# Altium footprint library MinesROV.PcbLib: 44 footprints (part 2 of 3)
Each footprint in its own frame and in the unit in brackets; x right, y up, seen from the top. Pads: shape width x height; smd on the part's side, far side on the other; paste and mask are expansions set on the pad; w line width, h text height; cw(c..) or ccw(c..) is an arc to the next point about the centre after c.
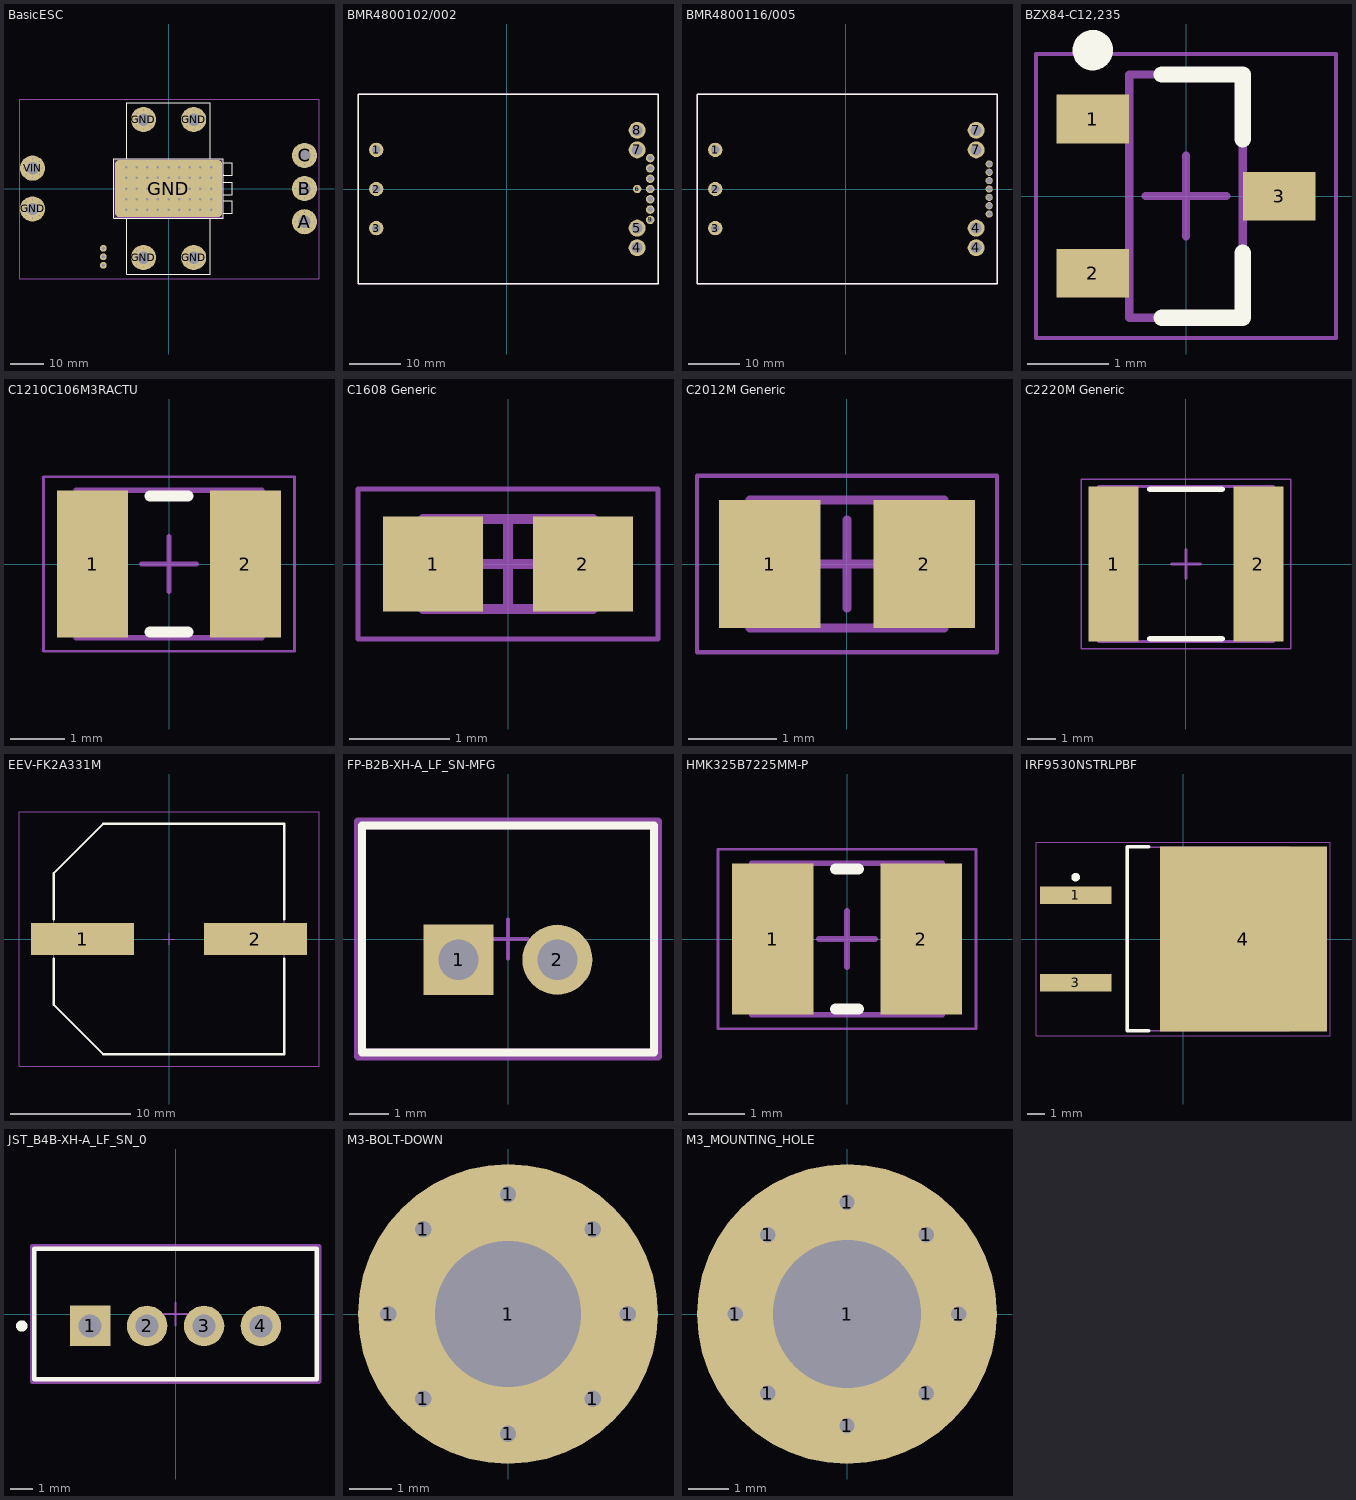
[diagram p1: the footprints below, top view; thin cyan lines are the x and y axes]

## #6_1#LONG_MF_Standoff [mm]
3D body "91075A446_Male-Female Threaded Hex Standoff (1).STEP": height 25.47, standoff -6.27, extent -3.175,-3.666 3.175,3.666

## BasicESC [mil]
pads (130):
  round 80 hole 40: 2(-767.72,-803.15) GND(-767.72,-903.15) SIG(-767.72,-703.15)
  round 30 hole 15 paste+0 mask+0: A(1490,-390) A(1522,-468) A(1522,-312) A(1600,-500) A(1600,-280) A(1678,-468) A(1678,-312) A(1710,-390) B(1490,0) B(1522,-78) B(1522,78) B(1600,-110) B(1600,110) B(1678,-78) B(1678,78) B(1710,0) C(1490,390) C(1522,312) C(1522,468) C(1600,280) C(1600,500) C(1678,312) C(1678,468) C(1710,390) GND(-1710,-240) GND(-1678,-318) GND(-1678,-162) GND(-1600,-350) GND(-1600,-130) GND(-1522,-318) GND(-1522,-162) GND(-1490,-240) GND(-405.28,-811.81) GND(-405.28,811.81) GND(-373.28,-889.81) GND(-373.28,-733.81) GND(-373.28,733.81) GND(-373.28,889.81) GND(-295.28,-921.81) GND(-295.28,-701.81) GND(-295.28,701.81) GND(-295.28,921.81) GND(-217.28,-889.81) GND(-217.28,-733.81) GND(-217.28,733.81) GND(-217.28,889.81) GND(-185.28,-811.81) GND(-185.28,811.81) GND(185.28,-811.81) GND(185.28,811.81) GND(217.28,-889.81) GND(217.28,-733.81) GND(217.28,733.81) GND(217.28,889.81) GND(295.28,-921.81) GND(295.28,-701.81) GND(295.28,701.81) GND(295.28,921.81) GND(373.28,-889.81) GND(373.28,-733.81) GND(373.28,733.81) GND(373.28,889.81) GND(405.28,-811.81) GND(405.28,811.81) VIN(-1710,240) VIN(-1678,162) VIN(-1678,318) VIN(-1600,130) VIN(-1600,350) VIN(-1522,162) VIN(-1522,318) VIN(-1490,240)
  round 295.28 hole 145.67: A(1600,-390) B(1600,0) C(1600,390) GND(-1600,-240) GND(-295.28,-811.81) GND(-295.28,811.81) GND(295.28,-811.81) GND(295.28,811.81) VIN(-1600,240)
  round 60 hole 30 paste+0 mask+0: GND(-500,-250) GND(-500,-125) GND(-500,0) GND(-500,125) GND(-500,250) GND(-375,-250) GND(-375,-125) GND(-375,0) GND(-375,125) GND(-375,250) GND(-250,-250) GND(-250,-125) GND(-250,0) GND(-250,125) GND(-250,250) GND(-125,-250) GND(-125,-125) GND(-125,0) GND(-125,125) GND(-125,250) GND(0,-250) GND(0,-125) GND(0,0) GND(0,125) GND(0,250) GND(125,-250) GND(125,-125) GND(125,0) GND(125,125) GND(125,250) GND(250,-250) GND(250,-125) GND(250,0) GND(250,125) GND(250,250) GND(375,-250) GND(375,-125) GND(375,0) GND(375,125) GND(375,250) GND(500,-250) GND(500,-125) GND(500,0) GND(500,125) GND(500,250)
  rrect15% 1259.84x673.23 all layers, no hole: GND(0,0)
Top Overlay:
  lines w10: -492.13,-350.39 -492.13,-1010 492.13,-1010 492.13,-350.39 ; 645,-290 647.52,-292.52 748.03,-292.52 748.03,-144.88 645,-144.88 ; 645,-70 647.52,-72.52 747.95,-72.52 747.95,75.12 645,75.12 ; 645,160 647.52,157.48 748.03,157.48 748.03,305.12 645,305.12 ; -492.13,350.39 -492.13,350.39 ; -492.13,350.39 -492.13,1010 492.13,1010 492.13,350.39 ; 492.13,350.39 492.13,350.39 ; -645,-350 645,-350 645,350 -645,350 -645,-350
Mechanical 13:
  lines w10: -629.92,-336.61 629.92,-336.61 629.92,336.61 -629.92,336.61 -629.92,-336.61
Mechanical 15:
  lines w10: -1760,-1060 1770,-1060 1770,1050 -1760,1050 -1760,-1060
3D body "c-0034120-21-f-3d.stp": height 165, standoff 0, extent 1244.83,207.29 1740.24,533
3D body "c-0034120-21-f-3d.stp": height 165, standoff 0, extent 1244.83,-533.01 1740.23,-207.29
3D body "c-0034120-21-f-3d.stp": height 165, standoff 0, extent 1259.54,-124.9 1718.54,124.9
3D body "ESC mounting system.STEP": height 390.73, standoff 2.19, extent -1014.3,-1008.14 1004.89,1009.06
3D body "Download_STP_61300311121 (rev1).stp": height 336.22, standoff -118.11, extent -817.72,-953.14 -717.72,-653.14
3D body "c-0034120-21-f-3d.stp": height 165, standoff 0, extent -1730.43,-361.13 -1271.43,-111.32
3D body "c-0034120-21-f-3d.stp": height 165, standoff 0, extent -1730.43,111.32 -1271.43,361.12
3D body "c-0034120-21-f-3d.stp": height 195, standoff 30, extent -1928.57,118.88 -1469.57,368.68
3D body "c-0034120-21-f-3d.stp": height 195, standoff 30, extent -1928.57,-361.12 -1469.57,-111.32
3D body "c-0034120-21-f-3d.stp": height 195, standoff 30, extent 1469.57,261.32 1928.57,511.12
3D body "c-0034120-21-f-3d.stp": height 195, standoff 30, extent 1469.57,-128.68 1928.57,121.12
3D body "c-0034120-21-f-3d.stp": height 195, standoff 30, extent 1469.57,-518.68 1928.57,-268.88

## BMR4800102/002 [mil] "Flex Power DC DC CONVERTER 12V 900W"
height 570
pads (15):
  round 110 hole 65: 1(-1000,300) 2(-1000,0) 3(-1000,-300)
  round 130 hole 85: 4(1000,-450) 5(1000,-300) 7(1000,300) 8(1000,450)
  round 64 hole 32: 6(1000,0)
  round 65 hole 40: 9(1100,-237) 10(1100,-158) 11(1100,-79) 12(1100,0) 13(1100,79) 14(1100,158) 15(1100,237)
Top Overlay:
  lines w10: -1140,-725 -1140,725 1160,725 1160,-725 -1140,-725
Mechanical 13:
  lines w10: -1140,-725 -1140,725 1160,725 1160,-725 -1140,-725
3D body: height 570, standoff 0, extent -1140,-725 1160,725

## BMR4800116/005 [mil] "Flex Power DC DC CONVERTER 12V 1300W"
height 570
pads (14):
  round 110 hole 65: 1(-1000,300) 2(-1000,0) 3(-1000,-300)
  round 130 hole 85: 4(1000,-450) 4(1000,-300) 7(1000,300) 7(1000,450)
  round 55 hole 40: 9(1100,-192) 10(1100,-128) 11(1100,-64) 12(1100,0) 13(1100,64) 14(1100,128) 15(1100,192)
Top Overlay:
  lines w10: -1140,-725 1160,-725 1160,725 -1140,725 -1140,-725
Mechanical 13:
  lines w10: -1140,-725 1160,-725 1160,725 -1140,725 -1140,-725
3D body: height 570, standoff 0, extent -1140,-725 1160,725

## BZX84-C12,235 [mm] "Nexperia DIODE ZENER 12V 250MW TO236AB"
height 1.1
pads (3):
  rect 0.9x0.6 smd: 1(-1.15,0.95) 2(-1.15,-0.95) 3(1.15,0)
Top Overlay:
  circle w0.25: c-1.15,1.8 r0.125
  lines w0.2: -0.3,-1.5 0.7,-1.5 0.7,-0.7 ; -0.3,1.5 0.7,1.5 0.7,0.7
Mechanical 13:
  lines w0.1: -0.7,-1.5 -0.7,1.5 0.7,1.5 0.7,-1.5 -0.7,-1.5
Mechanical 15:
  lines w0.05: -1.85,-1.75 -1.85,1.75 1.85,1.75 1.85,-1.75 -1.85,-1.75
  lines w0.1: -0.5,0 0.5,0 ; 0,-0.5 0,0.5
3D body "BZX84-C12,235  .step": height 1.1, standoff 0, extent -1.3,-1.5 1.3,1.5

## C1210C106M3RACTU [mm] "KEMET CAP CER 10UF 25V X7R 1210"
height 1.25
pads (2):
  rect 1.3x2.7 smd: 1(-1.4,0) 2(1.4,0)
Top Overlay:
  lines w0.2: -0.35,-1.25 0.35,-1.25 ; -0.35,1.25 0.35,1.25
Mechanical 13:
  lines w0.1: -1.7,-1.35 1.7,-1.35 1.7,1.35 -1.7,1.35 -1.7,-1.35
Mechanical 15:
  lines w0.05: -2.3,-1.6 2.3,-1.6 2.3,1.6 -2.3,1.6 -2.3,-1.6
  lines w0.1: -0.5,0 0.5,0 ; 0,-0.5 0,0.5
3D body "C1210C106M3RACTU.step": height 1.25, standoff 0, extent -1.7,-1.35 1.7,1.35

## C1608 Generic [mm]
height 0.9
pads (2):
  rect 1x0.95 smd: 1(-0.75,0) 2(0.75,0)
Mechanical 13:
  lines w0.1: -0.85,-0.45 0.85,-0.45 0.85,0.45 -0.85,0.45 -0.85,-0.45
Mechanical 15:
  lines w0.05: -1.5,-0.75 1.5,-0.75 1.5,0.75 -1.5,0.75 -1.5,-0.75
  lines w0.1: -0.45,0 0.45,0 ; 0,-0.45 0,0.45
3D body "CC1608 Generic.step": height 0.9, standoff 0, extent -0.85,-0.45 0.85,0.45

## C2012M Generic [mm] "TDK Chip Ceramic Capacitor 2012M Generic"
height 1.45
pads (2):
  rect 1.15x1.45 smd: 1(-0.875,0) 2(0.875,0)
Mechanical 13:
  lines w0.1: -1.1,-0.725 1.1,-0.725 1.1,0.725 -1.1,0.725 -1.1,-0.725
Mechanical 15:
  lines w0.05: -1.7,-1 1.7,-1 1.7,1 -1.7,1 -1.7,-1
  lines w0.1: -0.5,0 0.5,0 ; 0,-0.5 0,0.5
3D body "C2012M Generic.step": height 1.45, standoff 0, extent -1.1,-0.725 1.1,0.725

## C2220M Generic [mm] "TDK Chip Ceramic Cap 2220M Generic"
height 2.8
pads (2):
  rect 1.75x5.4 smd: 1(-2.525,0) 2(2.525,0)
Top Overlay:
  lines w0.2: -1.25,-2.6 1.25,-2.6 ; -1.25,2.6 1.25,2.6
Mechanical 13:
  lines w0.1: -3.05,-2.7 -3.05,2.7 3.05,2.7 3.05,-2.7 -3.05,-2.7
Mechanical 15:
  lines w0.05: -3.65,-2.95 -3.65,2.95 3.65,2.95 3.65,-2.95 -3.65,-2.95
  lines w0.1: -0.5,0 0.5,0 ; 0,-0.5 0,0.5
3D body "C2220 Generic.step": height 2.8, standoff 0, extent -3.05,-2.7 3.05,2.7

## EEV-FK2A331M [mm] "Panasonic CAP ALUM 330UF 20% 100V SMD"
height 17
pads (2):
  rect 8.6x2.7 smd: 1(-7.2,0) 2(7.2,0)
Top Overlay:
  lines w0.2: -9.6,-1.65 -9.6,-5.475 -5.475,-9.6 9.6,-9.6 9.6,-1.65 ; -9.6,1.65 -9.6,5.475 -5.475,9.6 9.6,9.6 9.6,1.65
Mechanical 13:
  lines w0.1: -9.6,-5.475 -9.6,5.475 -5.475,9.6 9.6,9.6 9.6,-9.6 -5.475,-9.6 -9.6,-5.475
Mechanical 15:
  lines w0.05: -12.5,-10.6 12.5,-10.6 12.5,10.6 -12.5,10.6 -12.5,-10.6
  lines w0.1: -0.5,0 0.5,0 ; 0,-0.5 0,0.5
3D body "EEV-FK2A331M.step": height 17, standoff -1, extent -10.05,-9.6 10.05,9.6

## FP-B2B-XH-A_LF_SN-MFG [mil]
pads (2):
  rect 70x70 hole 40 paste-39370.1 mask+0: 1(-49.21,-20.67)
  round 70 hole 40 paste-39370.1 mask+0: 2(49.21,-20.67)
Top Overlay:
  lines w7.87: -145.67,-113.19 -145.67,113.19 145.67,113.19 145.67,-113.19 -145.67,-113.19
Mechanical 5:
  lines w7.87: -149.61,-117.13 -149.61,117.13 149.61,117.13 149.61,-117.13 -149.61,-117.13
  text ".Designator" at 0,-0.01 h39.37
Mechanical 13:
  lines w7.87: -145.67,-113.19 -145.67,113.19 145.67,113.19 145.67,-113.19 -145.67,-113.19
Mechanical 15:
  lines w7.87: -149.61,-117.13 -149.61,117.13 149.61,117.13 149.61,-117.13 -149.61,-117.13
Mechanical 16:
  lines w3.94: -19.68,0 19.68,0 ; 0,-19.68 0,19.68
3D body "Conn_JST_B2B-XH-A_LF_SN_eec.STEP": height 10, standoff 0, extent -149.61,-117.13 149.61,117.13

## HMK325B7225MM-P [mm] "Taiyo Yuden CAP CER 2.2UF 100V X7R 1210"
height 2.5
pads (2):
  rect 1.45x2.7 smd: 1(-1.325,0) 2(1.325,0)
Top Overlay:
  lines w0.2: -0.2,-1.25 0.2,-1.25 ; -0.2,1.25 0.2,1.25
Mechanical 13:
  lines w0.1: -1.7,-1.35 1.7,-1.35 1.7,1.35 -1.7,1.35 -1.7,-1.35
Mechanical 15:
  lines w0.05: -2.3,-1.6 2.3,-1.6 2.3,1.6 -2.3,1.6 -2.3,-1.6
  lines w0.1: -0.5,0 0.5,0 ; 0,-0.5 0,0.5
3D body "HMK325B7225MM-P.step": height 2.5, standoff 0, extent -1.7,-1.35 1.7,1.35

## IRF9530NSTRLPBF [mm] "Infineon MOSFET P-CH 100V 14A D2PAK"
height 4.83
pads (3):
  rect 4.15x1 smd: 1(-6.25,2.54) 3(-6.25,-2.54)
  rect 9.7x10.75 smd: 4(3.5,0)
Top Overlay:
  circle w0.25: c-6.25,3.59 r0.125
  lines w0.2: -1.996,-5.334 -3.246,-5.334 -3.246,5.35 -1.996,5.35
Mechanical 13:
  lines w0.1: -3.302,-5.325 -3.302,5.325 6.15,5.325 6.15,-5.325 -3.302,-5.325
Mechanical 15:
  lines w0.05: -8.55,-5.625 -8.55,5.625 8.55,5.625 8.55,-5.625 -8.55,-5.625
  lines w0.1: -0.5,0 0.5,0 ; 0,-0.5 0,0.5
3D body "IRF9530NSTRLPBF.STEP": height 4.83, standoff -0.25, extent -7.62,-5.08 7.62,5.08

## JST_B4B-XH-A_LF_SN_0 [mil]
pads (4):
  rect 70x70 hole 40 paste-39370.1 mask+0: 1(-147.64,-20.67)
  round 70 hole 40 paste-39370.1 mask+0: 2(-49.21,-20.67) 3(49.21,-20.67) 4(147.64,-20.67)
Top Overlay:
  circle w9.84: c-265.75,-20.67 r4.92
  lines w7.87: -244.09,-113.19 244.09,-113.19 244.09,113.19 -244.09,113.19 -244.09,-113.19
Mechanical 10:
  lines w7.87: -248.03,-117.13 248.03,-117.13 248.03,117.13 -248.03,117.13 -248.03,-117.13
  text ".Designator" at 0,0 h39.37
Mechanical 12:
  lines w5.91: -244.09,-113.19 244.09,-113.19 244.09,113.19 -244.09,113.19 -244.09,-113.19
Mechanical 15:
  lines w3.94: -19.68,0 19.68,0 ; 0,-19.68 0,19.68
  lines w7.87: -248.03,-117.13 248.03,-117.13 248.03,117.13 -248.03,117.13 -248.03,-117.13
3D body "B4B-XH-A.STEP": height 275.83, standoff -133.62, extent -244.1,-117.13 244.09,109.25

## M3-BOLT-DOWN [mil]
pads (9):
  round 30 hole 15 paste+0 mask+0: 1(-110,0) 1(-78,-78) 1(-78,78) 1(0,-110) 1(0,110) 1(78,-78) 1(78,78) 1(110,0)
  round 275.59 hole 133.86: 1(0,0)

## M3_MOUNTING_HOLE [mil] "MECHANICAL M3 MOUNTING HOLE"
pads (9):
  round 30 hole 15 paste+0 mask+0: 1(-110,0) 1(-78,-78) 1(-78,78) 1(0,-110) 1(0,110) 1(78,-78) 1(78,78) 1(110,0)
  round 295.28 hole 145.67: 1(0,0)